# Altium footprint library SD_Card.PcbLib: 1 footprints
Each footprint in its own frame and in the unit in brackets; x right, y up, seen from the top. Pads: shape width x height; smd on the part's side, far side on the other; paste and mask are expansions set on the pad; w line width, h text height; cw(c..) or ccw(c..) is an arc to the next point about the centre after c.
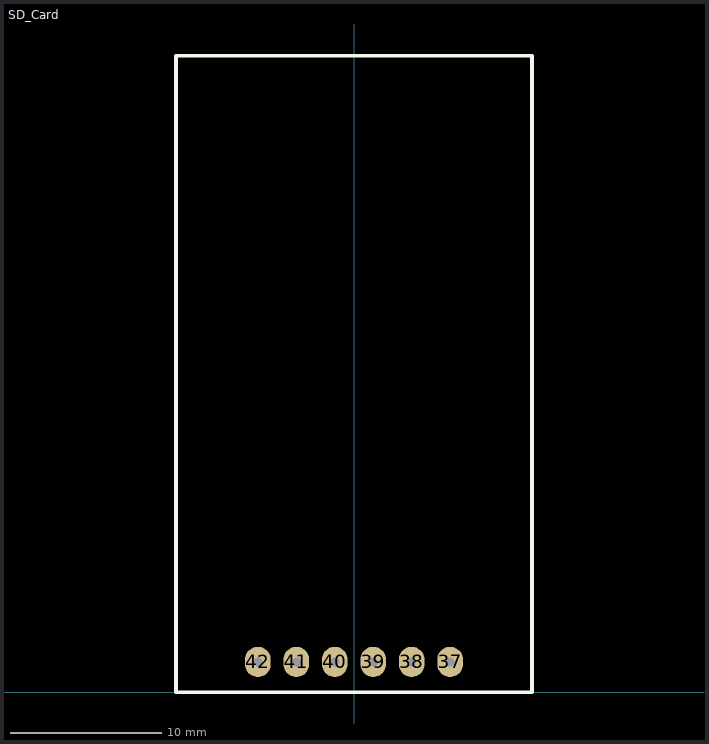
[diagram p0: the footprint, top view; thin cyan lines are the x and y axes]

## SD_Card [mm]
pads (6):
  oval 1.7x2 hole 0.6: 37(6.35,2) 38(3.81,2) 39(1.27,2) 40(-1.27,2) 41(-3.81,2) 42(-6.35,2)
Top Overlay:
  lines w0.254: -11.747,0 -11.747,42.037 11.747,42.037 11.747,41.91 11.747,0 -11.747,0
3D body "Product_TF Micro SD Card Memory Modul Arduino.stp": height 5.59, standoff -1.71, extent -11.938,-5.085 12.062,40.645